# Altium schematic symbol library NMOS.SchLib: 8 symbols
Pins are listed as number, name and electrical type; pins without a type are passive.

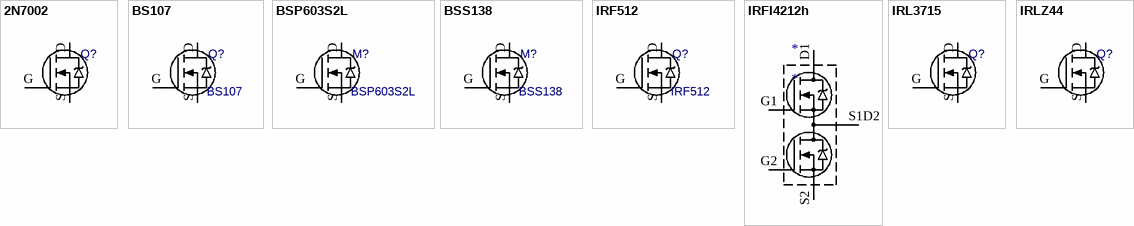
[diagram p0: symbols 2N7002 to IRLZ44]

## 2N7002
designator Q?
N-ch, Vdss=60V, Id=115mA, Rdson=2R; Value: {Value}
footprint SOT23-3_L (Small Outline Transistor (SOT23), 0.96 mm pitch; 3 pin, 2.92 mm L X 1.30 mm W X 1.12 mm H body); pin to pad D>3 G>1 S>2
footprint SOT23-3_M (Small Outline Transistor (SOT23), 0.96 mm pitch; 3 pin, 2.92 mm L X 1.30 mm W X 1.12 mm H body); pin to pad D>3 G>1 S>2
footprint SOT23-3_N (Small Outline Transistor (SOT23), 0.96 mm pitch; 3 pin, 2.92 mm L X 1.30 mm W X 1.12 mm H body); pin to pad D>3 G>1 S>2
pins: D, G, S

## BS107
designator Q?
Value: {Value}
footprint TO-92; pin to pad D>1 G>2 S>3
pins: D, G, S

## BSP603S2L
designator M?
Value: {Value}
footprint SOT223_L (Small Outline Transistor (SOT223), 2.30 mm pitch; 4 pin, 6.50 mm L X 3.50 mm W X 1.80 mm H body); pin to pad D>2+4 G>1 S>3
footprint SOT223_M (Small Outline Transistor (SOT223), 2.30 mm pitch; 4 pin, 6.50 mm L X 3.50 mm W X 1.80 mm H body); pin to pad D>2+4 G>1 S>3
footprint SOT223_N (Small Outline Transistor (SOT223), 2.30 mm pitch; 4 pin, 6.50 mm L X 3.50 mm W X 1.80 mm H body); pin to pad D>2+4 G>1 S>3
pins: D, G, S

## BSS138
designator M?
Value: {Value}
footprint SOT23-3_L (Small Outline Transistor (SOT23), 0.96 mm pitch; 3 pin, 2.92 mm L X 1.30 mm W X 1.12 mm H body); pin to pad D>3 G>1 S>2
footprint SOT23-3_M (Small Outline Transistor (SOT23), 0.96 mm pitch; 3 pin, 2.92 mm L X 1.30 mm W X 1.12 mm H body); pin to pad D>3 G>1 S>2
footprint SOT23-3_N (Small Outline Transistor (SOT23), 0.96 mm pitch; 3 pin, 2.92 mm L X 1.30 mm W X 1.12 mm H body); pin to pad D>3 G>1 S>2
pins: D, G, S

## IRF512
designator Q?
Value: {Value}
footprint TO-220AB vertical
footprint TO-220AB horizontal
footprint TO-220AB vertical + HS
footprint TO-220AB vertical + HS2
pins: D, G, S

## IRFI4212h
designator *
footprint TO-220-5; pin to pad D1>5 G1>4 G2>2 S1D2>3 S2>1
pins: D1, G1, G2, S1D2, S2

## IRL3715
designator Q?
HEX-FET Vdss=20V, Id=50A, Rdson=0.011R; Value: {Value}
footprint D2PAK_TO263_L (DPAK, 5.08 mm pitch; 2 pin, 9.015 mm L X 10.16 mm W X 4.65 mm H body); pin to pad D>3 G>1 S>2
footprint D2PAK_TO263_M (DPAK, 5.08 mm pitch; 2 pin, 9.015 mm L X 10.16 mm W X 4.65 mm H body); pin to pad D>3 G>1 S>2
footprint D2PAK_TO263_N (DPAK, 5.08 mm pitch; 2 pin, 9.015 mm L X 10.16 mm W X 4.65 mm H body); pin to pad D>3 G>1 S>2
pins: D, G, S

## IRLZ44
designator Q?
HEX-FET Vdss=60V, Id=35A, Rdson=0.04R; Value: {Value}
footprint TO-220AB vertical
footprint TO-220AB horizontal
footprint TO-220AB vertical + HS
footprint TO-220AB vertical + HS2
pins: D, G, S